# Altium schematic symbol library AD8138.SchLib: 1 symbol
Pins are listed as number, name and electrical type; pins without a type are passive.

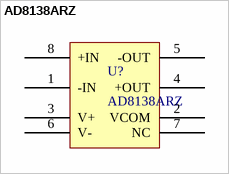
[diagram p0: symbol AD8138ARZ]

## AD8138ARZ
designator U?
pins: 1 -IN, 2 VCOM, 3 V+, 4 +OUT, 5 -OUT, 6 V-, 7 NC, 8 +IN